# Altium schematic symbol library SCH - VIDEO - TI THS7374.SchLib: 1 symbol
Pins are listed as number, name and electrical type; pins without a type are passive.

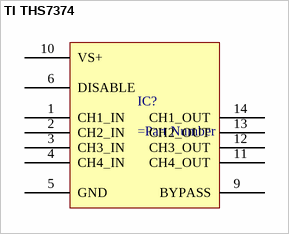
[diagram p0: symbol TI THS7374]

## TI THS7374
designator IC?
pins: 1 CH1_IN, 2 CH2_IN, 3 CH3_IN, 4 CH4_IN, 5 GND, 6 DISABLE, 9 BYPASS, 10 VS+, 11 CH4_OUT, 12 CH3_OUT, 13 CH2_OUT, 14 CH1_OUT